# EAGLE library part MURATA_BALUN (library ZIGBEE)
XFMR BALUN 2400 +/- 100MHz SMT Murata PN: LBD212G4005C-001 TDK Corporation PN: HHM1525 Digi-Key PN: 445-3991-6-ND http://www.digikey.com/product-detail/en/HHM1525/445-3991-6-ND/1955630
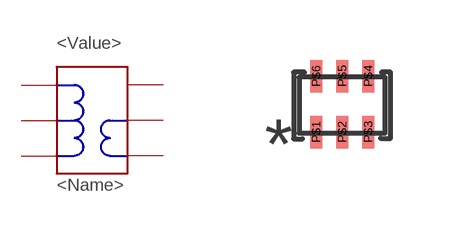
[diagram p1: symbol with the pads of XFMR_HHM1525; footprint XFMR_HHM1525]

Designator prefix -

## MURATA_BALUN  [XFMR_HHM1525]
P$1  P$1
P$2  P$2
P$3  P$3
P$4  P$4
P$5  P$5
P$6  P$6

## Footprint XFMR_HHM1525 (pad centres in mm)
smd 0.305 x 0.813: P$1 -0.65,-0.67; P$2 0,-0.67; P$3 0.65,-0.67; P$4 0.65,0.73; P$5 0,0.73; P$6 -0.65,0.73